# Altium footprint library USB.PcbLib: 1 footprints
Each footprint in its own frame and in the unit in brackets; x right, y up, seen from the top. Pads: shape width x height; smd on the part's side, far side on the other; paste and mask are expansions set on the pad; w line width, h text height; cw(c..) or ccw(c..) is an arc to the next point about the centre after c.
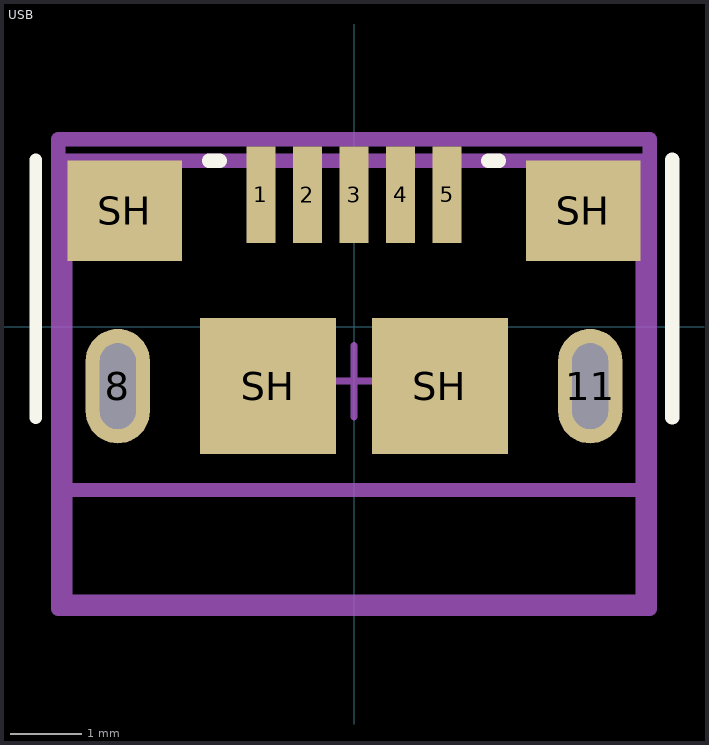
[diagram p0: the footprint, top view; thin cyan lines are the x and y axes]

## USB [mm]
pads (11):
  rect 0.4x1.35 smd paste+0 mask+0: 1(-1.3,1.843) 2(-0.65,1.843) 3(0,1.843) 4(0.65,1.843) 5(1.3,1.843)
  rrect100% 0.9x1.6 hole 1.2 slot 0.5 at 0 deg paste-1000 mask+0: 8(-3.3,-0.832) 11(3.3,-0.832)
  rect 1.6x1.4 smd paste+0 mask+0: SH(-3.2,1.618) SH(3.2,1.618)
  rect 1.9x1.9 smd paste+0 mask+0: SH(-1.2,-0.832) SH(1.2,-0.832)
Top Overlay:
  lines w0.178: -4.445,-1.27 -4.445,2.33
  lines w0.2: -2.025,2.318 -1.875,2.318 ; 1.875,2.318 2.025,2.318 ; 4.445,-1.27 4.445,2.33
Mechanical 10:
  lines w0.2: -4.13,-3.942 4.13,-3.942 4.13,2.618 -4.13,2.618 -4.13,-3.942
Mechanical 12:
  lines w0.2: -4.13,-2.282 4.13,-2.282 ; -4.03,-3.842 4.03,-3.842 4.03,2.318 -4.03,2.318 -4.03,-3.842
Mechanical 15:
  lines w0.1: -0.5,-0.762 0.5,-0.762 ; 0,-1.262 0,-0.262
  lines w0.2: -4.13,-3.942 4.13,-3.942 4.13,2.618 -4.13,2.618 -4.13,-3.942
3D body "Conn_Amphenol_ICC_-_FCI_10118193-0001LF_eec.STEP": height 0.25, standoff 0, extent -4.13,-3.942 4.13,2.618